# Altium schematic symbol library LMR1802G-LBTR.SchLib: 1 symbol
Pins are listed as number, name and electrical type; pins without a type are passive.

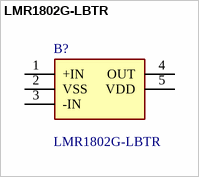
[diagram p0: symbol LMR1802G-LBTR]

## LMR1802G-LBTR
designator B?
Operational Amplifiers - Op Amps 5uV Offset Voltage SSOP5 CMOS; Manufacturer_Name: ROHM Semiconductor; Geometry.Height: 1.25mm; Manufacturer_Part_Number: LMR1802G-LBTR; Mouser Part Number: 755-LMR1802G-LBTR; Mouser Price/Stock: https://www.mouser.co.uk/ProductDetail/ROHM-Semiconductor/LMR1802G-LBTR?qs=%252BEew9%252B0nqrCcdg%2Fv8y6fXw%3D%3D; Arrow Part Number: *; Arrow Price/Stock: *; Mouser Testing Part Number: *; Mouser Testing Price/Stock: *; Datasheet Link: https://www.rohm.com/products/amplifiers-and-linear/operational-amplifiers/high-performance/ground-sense/lmr1802g-lb-product
footprint SOT95P280X125-5N
pins: 1 +IN, 2 VSS, 3 -IN, 4 OUT, 5 VDD